# Altium footprint library 61301411121.PcbLib: 1 footprints
Each footprint in its own frame and in the unit in brackets; x right, y up, seen from the top. Pads: shape width x height; smd on the part's side, far side on the other; paste and mask are expansions set on the pad; w line width, h text height; cw(c..) or ccw(c..) is an arc to the next point about the centre after c.
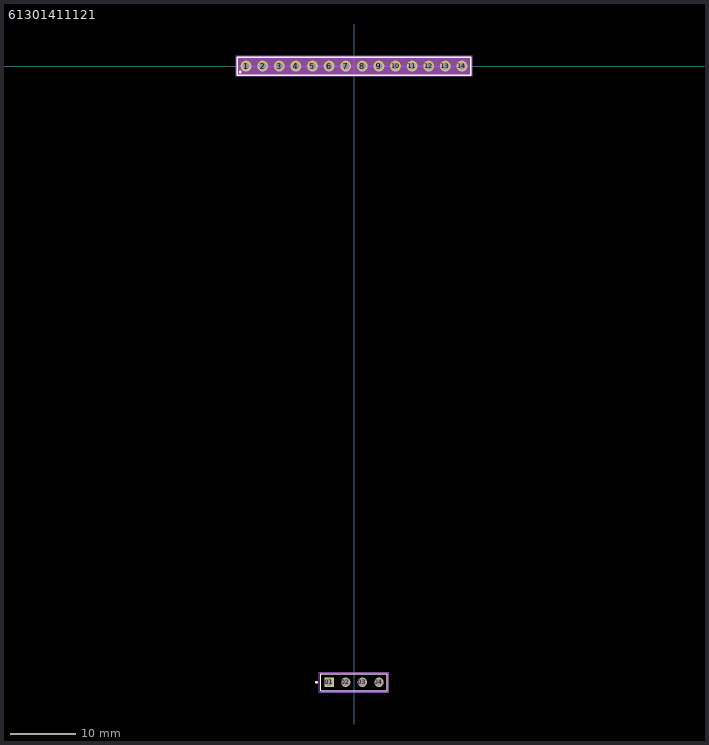
[diagram p0: the footprint, top view; thin cyan lines are the x and y axes]

## 61301411121 [mm]
pads (18):
  round 1.65 hole 1.1: 1(-16.51,0) 2(-13.97,0) 3(-11.43,0) 4(-8.89,0) 5(-6.35,0) 6(-3.81,0) 7(-1.27,0) 8(1.27,0) 9(3.81,0) 10(6.35,0) 11(8.89,0) 12(11.43,0) 13(13.97,0) 14(16.51,0)
  rect 1.45x1.45 / inner round 1.45 / far side rect 1.45x1.45 hole 1.1: 01(-3.81,-94.234)
  round 1.45 hole 1.1: 02(-1.27,-94.234) 03(1.27,-94.234) 04(3.81,-94.234)
Top Overlay:
  circle w0.2: c-5.73,-94.234 r0.1
  circle w0.2: c-17.4,-0.9 r0.1
  lines w0.127: -5.08,-95.504 5.08,-95.504 5.08,-92.964 -5.08,-92.964 -5.08,-95.504
  lines w0.2: -17.88,-1.37 -17.88,1.37 17.88,1.37 17.88,-1.37 -17.88,-1.37
Assembly Top:
  circle w0.2: c-5.73,-94.234 r0.1
  lines w0.1: -17.78,-1.27 17.78,-1.27 17.78,1.27 -17.78,1.27 -17.78,-1.27
  lines w0.127: -5.08,-95.504 5.08,-95.504 5.08,-92.964 -5.08,-92.964 -5.08,-95.504
Courtyard Top:
  region: 18.08,-1.57 -18.08,-1.57 -18.08,1.57 18.08,1.57
  lines w0.05: -5.33,-95.754 5.33,-95.754 5.33,-92.714 -5.33,-92.714 -5.33,-95.754
3D body "Display SPI  3.5 ILI9488.stp": height 4.4, standoff -8.54, extent -28.15,-96.022 28.15,1.778